# EAGLE library part WBL2UOAGQR05CLR (library keves-ng)
right angle illuminated pushbutton
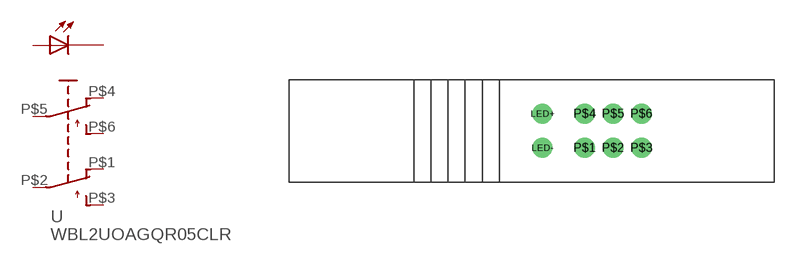
[diagram p7: symbol with the pads of WBL2UOAGQ; footprint WBL2UOAGQ]

Designator prefix -

## WBL2UOAGQR05CLR  [WBL2UOAGQ]
LED+  LED+  pas
LED-  LED-  pas
P$1  OUT1_NC  pas
P$2  IN1  pas
P$3  OUT1_NO  pas
P$4  OUT2_NC  pas
P$5  IN2  pas
P$6  OUT2_NO  pas

## Footprint WBL2UOAGQ (pad centres in mm)
drill 1.016 pad 1.778: LED+ -6.2,1.5; LED- -6.2,-1.5; P$1 -2.5,-1.5; P$2 0,-1.5; P$3 2.5,-1.5; P$4 -2.5,1.5; P$5 0,1.5; P$6 2.5,1.5